# Altium footprint library EVENTCTRL.PcbLib: 42 footprints (part 3 of 3)
Each footprint in its own frame and in the unit in brackets; x right, y up, seen from the top. Pads: shape width x height; smd on the part's side, far side on the other; paste and mask are expansions set on the pad; w line width, h text height; cw(c..) or ccw(c..) is an arc to the next point about the centre after c.
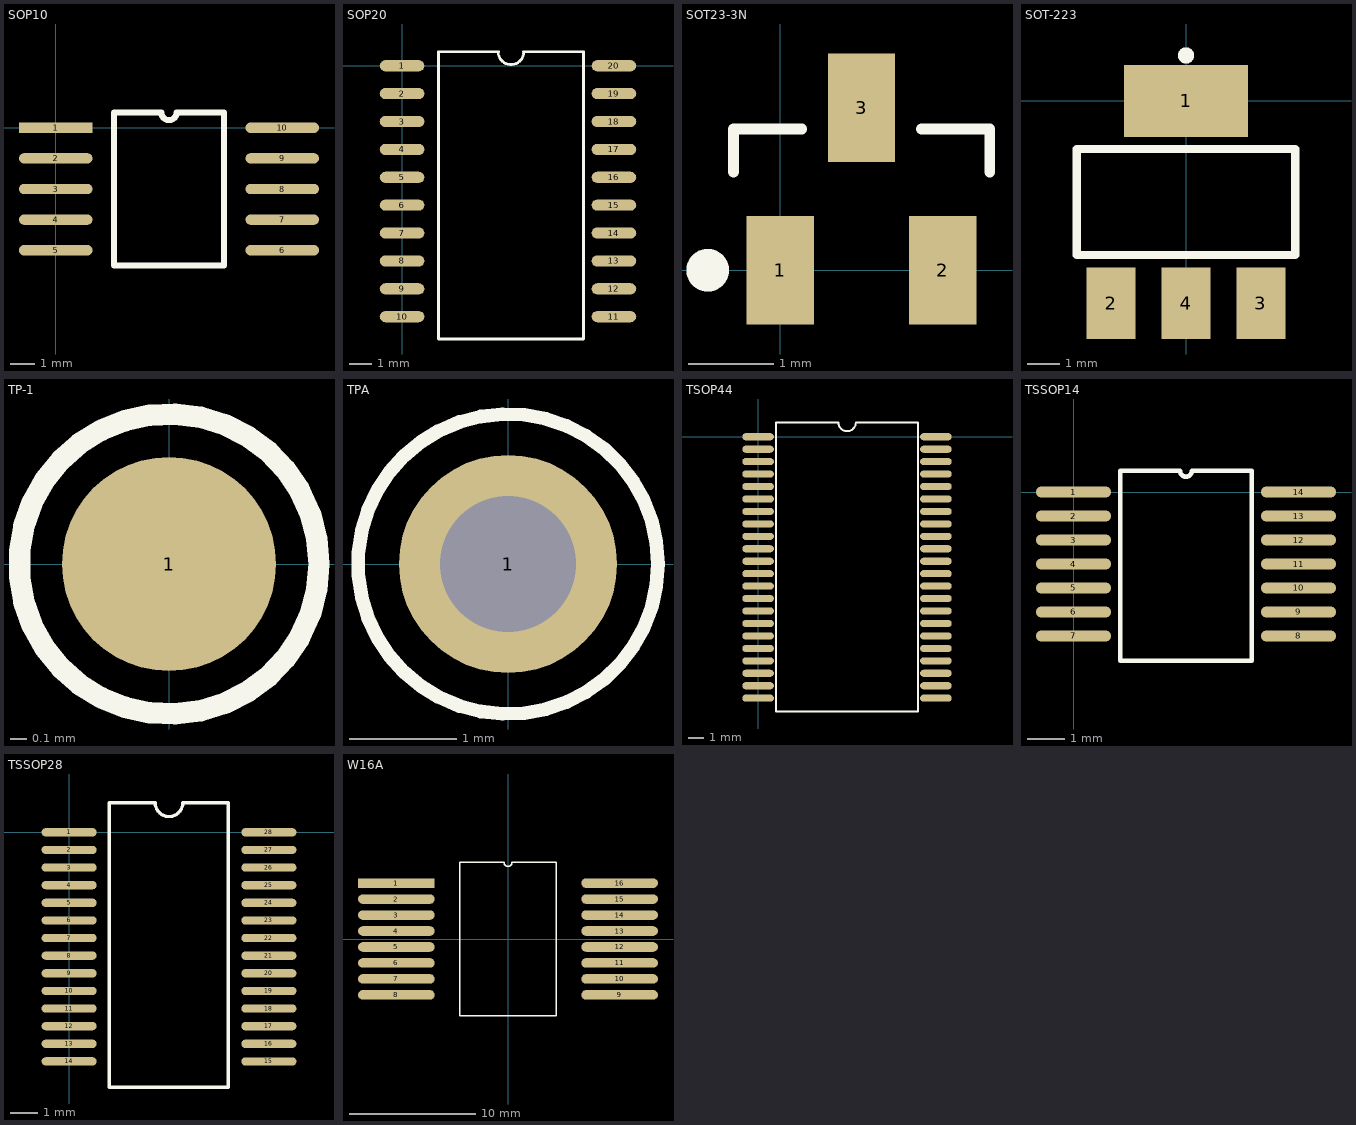
[diagram p2: the footprints below, top view; thin cyan lines are the x and y axes]

## SOP10 [mil]
height 20
pads (10):
  rect 120x17 smd: 1(0,0)
  oval 120x17 smd: 2(0,-50) 3(0,-100) 4(0,-150) 5(0,-200) 6(370,-200) 7(370,-150) 8(370,-100) 9(370,-50) 10(370,0)
Top Overlay:
  lines w10: 95,-225 95,25 172.5,25 ccw(c185,25) 197.5,25 275,25 275,-225 95,-225

## SOP20 [mil]
pads (20):
  oval 80x20 smd: 1(0,0) 2(0,-50) 3(0,-100) 4(0,-150) 5(0,-200) 6(0,-250) 7(0,-300) 8(0,-350) 9(0,-400) 10(0,-450) 11(380,-450) 12(380,-400) 13(380,-350) 14(380,-300) 15(380,-250) 16(380,-200) 17(380,-150) 18(380,-100) 19(380,-50) 20(380,0)
Top Overlay:
  lines w5: 172.36,25 ccw(c195.35,25) 218.35,25 ; 172.72,25 65.3,25 65.3,-490 325.41,-490 325.41,25 217.72,25

## SOT23-3N [mil]
pads (3):
  rect 31x50 smd: 1(0,0) 2(74.8,0) 3(37.4,74.8)
Top Overlay:
  circle w9.84: c-33.46,0 r4.92
  lines w5: -21.65,45.28 -21.65,64.96 9.84,64.96 ; 64.96,64.96 96.46,64.96 96.46,45.28

## SOT-223 [mm] "SOT-223/SC-73; 4 Leads; Body 6.7 x 7.3 mm, inc. leads (LxW max)"
pads (4):
  rect 3.8x2.2 smd: 1(0,0)
  rect 1.5x2.2 smd: 2(-2.3,-6.2) 3(2.3,-6.2) 4(0,-6.2)
Top Overlay:
  circle w0.25: c0.002,1.397 r0.125
  lines w0.254: -3.35,-4.725 3.35,-4.725 3.35,-1.475 -3.35,-1.475 -3.35,-4.725

## TP-1 [mil]
pads (1):
  round 50 smd: 1(0,0)
Top Overlay:
  circle w5: c0,0 r35

## TPA [mil]
pads (1):
  round 80 hole 50: 1(0,0)
Top Overlay:
  circle w5: c0,0 r55

## TSOP44 [mil]
pads (44):
  oval 80x18 smd: 1(0,0) 2(0,-31.5) 3(0,-62.99) 4(0,-94.49) 5(0,-125.98) 6(0,-157.48) 7(0,-188.98) 8(0,-220.47) 9(0,-251.97) 10(0,-283.46) 11(0,-314.96) 12(0,-346.46) 13(0,-377.95) 14(0,-409.45) 15(0,-440.95) 16(0,-472.44) 17(0,-503.94) 18(0,-535.43) 19(0,-566.93) 20(0,-598.43) 21(0,-629.92) 22(0,-661.42) 23(450,-661.42) 24(450,-629.92) 25(450,-598.43) 26(450,-566.93) 27(450,-535.43) 28(450,-503.94) 29(450,-472.44) 30(450,-440.94) 31(450,-409.45) 32(450,-377.95) 33(450,-346.46) 34(450,-314.96) 35(450,-283.46) 36(450,-251.97) 37(450,-220.47) 38(450,-188.98) 39(450,-157.48) 40(450,-125.98) 41(450,-94.49) 42(450,-62.99) 43(450,-31.5) 44(450,0)
Top Overlay:
  lines w5: 203.64,35.75 ccw(c225.43,35.75) 247.23,35.75 ; 204,35.75 45,35.75 45,-695 405,-695 405,35.75 247.99,35.75

## TSSOP14 [mil]
pads (14):
  oval 80x12 smd: 1(0,0) 2(0,-25.59) 3(0,-51.18) 4(0,-76.77) 5(0,-102.36) 6(0,-127.95) 7(0,-153.54) 8(240,-153.54) 9(240,-127.95) 10(240,-102.36) 11(240,-76.77) 12(240,-51.18) 13(240,-25.59) 14(240,0)
Top Overlay:
  lines w5: 50,-180 190,-180 190,22.8 126.32,22.8 cw(c119.92,22.8) 113.52,22.8 50,22.8 50,-180

## TSSOP28 [mil]
pads (28):
  oval 80x12 smd: 1(0,0) 2(0,-25.59) 3(0,-51.18) 4(0,-76.77) 5(0,-102.36) 6(0,-127.95) 7(0,-153.54) 8(0,-179.13) 9(0,-204.72) 10(0,-230.31) 11(0,-255.91) 12(0,-281.5) 13(0,-307.09) 14(0,-332.68) 15(290,-332.8) 16(290,-307.2) 17(290,-281.61) 18(290,-255.98) 19(290,-230.39) 20(290,-204.8) 21(290,-179.21) 22(290,-153.58) 23(290,-127.99) 24(290,-102.4) 25(290,-76.81) 26(290,-51.18) 27(290,-25.59) 28(290,0)
Top Overlay:
  lines w5: 123,42.8 58,42.8 58,-370 231,-370 231,42.8 166,42.8 ; 125,42.84 ccw(c145,42.84) 165,42.84

## W16A [mil]
pads (16):
  rect 240x30 smd: 1(-350,175)
  oval 240x30 smd: 2(-350,125) 3(-350,75) 4(-350,25) 5(-350,-25) 6(-350,-75) 7(-350,-125) 8(-350,-175) 9(350,-175) 10(350,-125) 11(350,-75) 12(350,-25) 13(350,25) 14(350,75) 15(350,125) 16(350,175)
Top Overlay:
  lines w5: -150.98,-240 150.98,-240 ; -150.98,-239.37 -150.98,239.37 ; -150.98,240 -12.5,240 ccw(c0,240) 12.5,240 150.98,240 ; 150.98,-239.37 150.98,239.37